# EAGLE library part LMV341 (library _RoweTel)
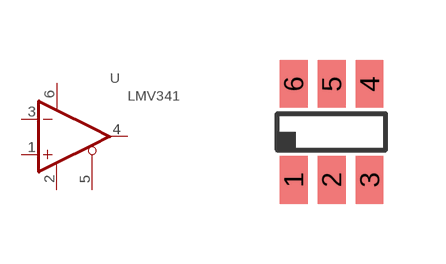
[diagram p84: symbol with the pads of SOT23-6; footprint SOT23-6]

Designator prefix U

## LMV341  [SOT23-6]
1  +IN  in
2  GND
3  -IN  in
4  OUT  out
5  !SHDN!
6  V+

## Footprint SOT23-6 (pad centres in mm)
smd 0.7 x 1.2: 1 -0.95,-1.2; 2 0,-1.2; 3 0.95,-1.2; 4 0.95,1.2; 5 0,1.2; 6 -0.95,1.2